# Altium footprint library Molex Connectors.PcbLib: 2 footprints
Each footprint in its own frame and in the unit in brackets; x right, y up, seen from the top. Pads: shape width x height; smd on the part's side, far side on the other; paste and mask are expansions set on the pad; w line width, h text height; cw(c..) or ccw(c..) is an arc to the next point about the centre after c.
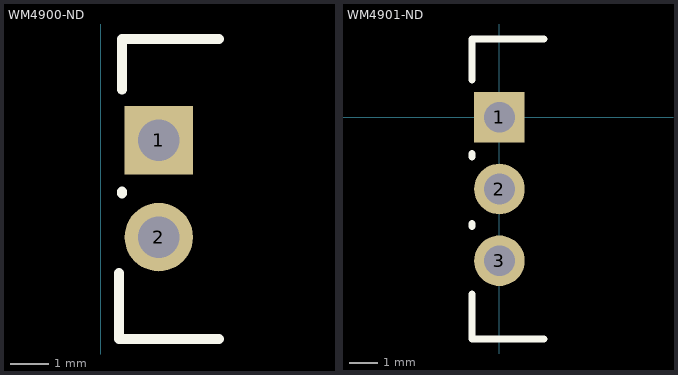
[diagram p0: the footprints below, top view; thin cyan lines are the x and y axes]

## WM4900-ND [mm]
pads (2):
  rect 1.79x1.79 hole 1.09: 1(1.524,7.772)
  round 1.79 hole 1.09: 2(1.524,5.232)
Top Overlay:
  lines w0.254: 0.483,4.293 0.483,2.565 3.099,2.565 ; 0.559,6.375 0.559,6.426 ; 0.559,9.093 0.559,10.418 3.099,10.418
3D body "705530001.stp": height 7.11, standoff -3.17, extent 0.889,2.845 14.478,10.211

## WM4901-ND [mm]
pads (3):
  rect 1.79x1.79 hole 1.09: 1(0,0)
  round 1.79 hole 1.09: 2(0,-2.54) 3(0,-5.08)
Top Overlay:
  lines w0.254: -0.965,-6.254 -0.965,-7.849 1.575,-7.849 ; -0.965,-3.861 -0.965,-3.759 ; -0.965,-1.397 -0.965,-1.295 ; -0.965,1.321 -0.965,2.769 1.575,2.769
3D body "705530002.stp": height 7.11, standoff -3.17, extent -0.762,-7.62 12.827,2.54